# EAGLE library part LTC1046 (library LTC1046)
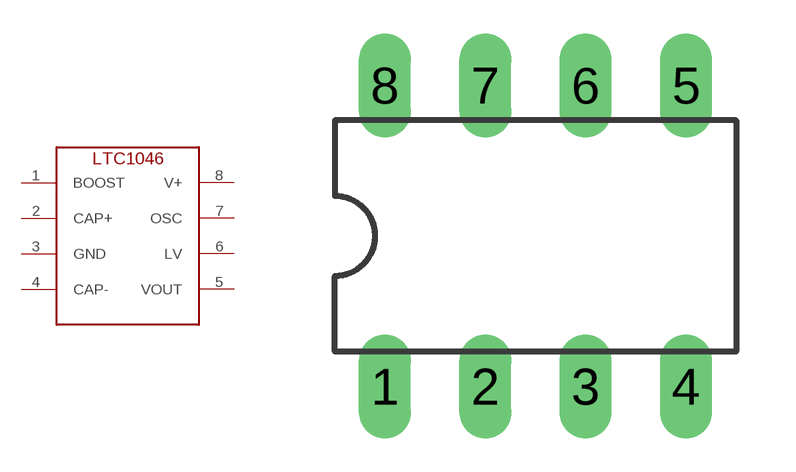
[diagram p0: symbol with the pads of DIL08; footprint DIL08]

Designator prefix -

## LTC1046  [DIL08]
1  BOOST
2  CAP+
3  GND
4  CAP-
5  VOUT
6  LV
7  OSC
8  V+

## Footprint DIL08 (pad centres in mm)
Dual In Line Package
drill 0.813 long: 1 -3.81,-3.81; 2 -1.27,-3.81; 3 1.27,-3.81; 4 3.81,-3.81; 5 3.81,3.81; 6 1.27,3.81; 7 -1.27,3.81; 8 -3.81,3.81